# Altium schematic symbol library BAT_LP735977JH.SchLib: 1 symbol
Pins are listed as number, name and electrical type; pins without a type are passive.

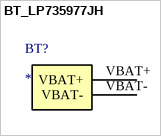
[diagram p0: symbol BT_LP735977JH]

## BT_LP735977JH
designator BT?
footprint LiPo Battery 5Ah
pins: VBAT+, VBAT-